# Altium integrated library 03132024_PIFProject_Mai_v1.IntLib: 12 symbols
Pins are listed as number, name and electrical type; pins without a type are passive.

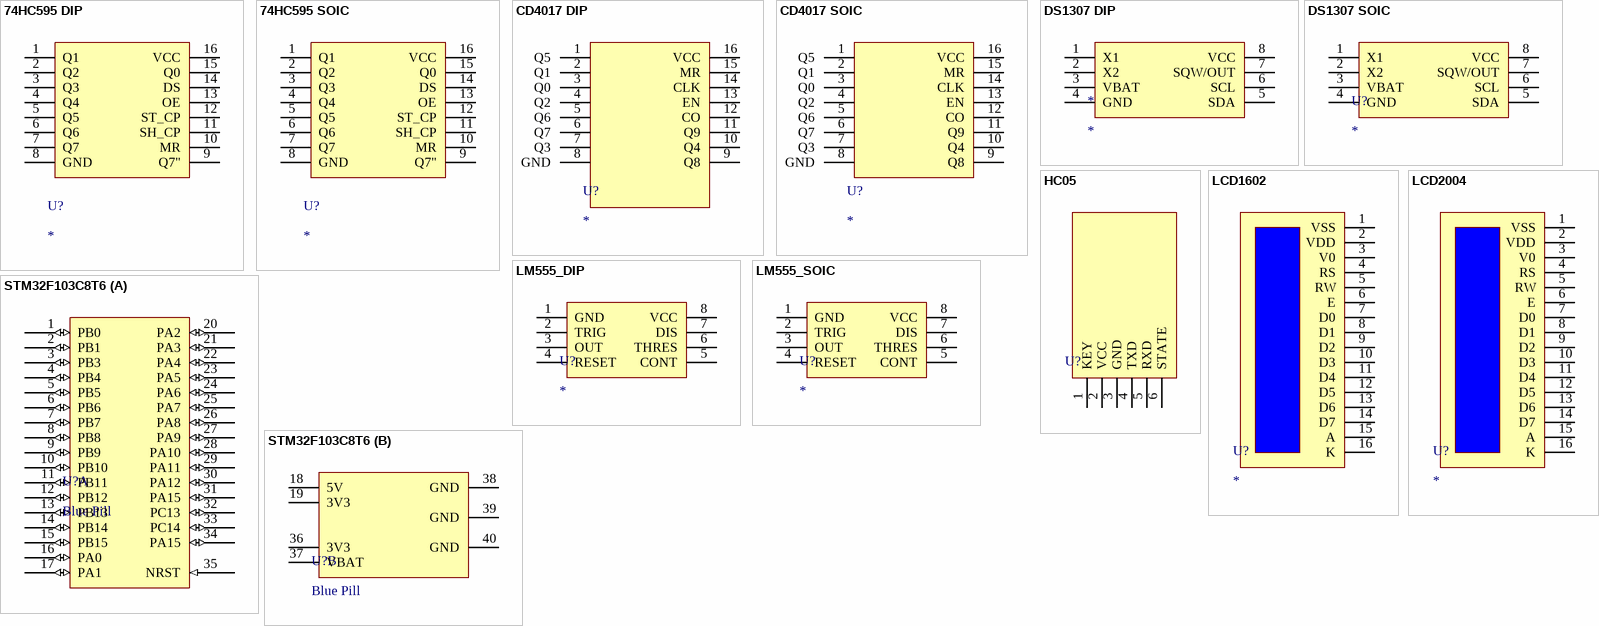
[diagram p0: symbols 74HC595 DIP to STM32F103C8T6]

## 74HC595 DIP
designator U?
footprint 74HC595 DIP
pins: 1 Q1, 2 Q2, 3 Q3, 4 Q4, 5 Q5, 6 Q6, 7 Q7, 8 GND, 9 Q7'', 10 MR, 11 SH_CP, 12 ST_CP, 13 OE, 14 DS, 15 Q0, 16 VCC

## 74HC595 SOIC
designator U?
footprint 74HC595 SOIC
pins: 1 Q1, 2 Q2, 3 Q3, 4 Q4, 5 Q5, 6 Q6, 7 Q7, 8 GND, 9 Q7'', 10 MR, 11 SH_CP, 12 ST_CP, 13 OE, 14 DS, 15 Q0, 16 VCC

## CD4017 DIP
designator U?
footprint CD4017 DIP
pins: 1 Q5, 2 Q1, 3 Q0, 4 Q2, 5 Q6, 6 Q7, 7 Q3, 8 GND, 9 Q8, 10 Q4, 11 Q9, 12 CO, 13 EN, 14 CLK, 15 MR, 16 VCC

## CD4017 SOIC
designator U?
footprint CD4017_SOIC (SOIC, 16-Leads, Body 9.90x3.90mm, Pitch 1.27mm, IPC Medium Density)
pins: 1 Q5, 2 Q1, 3 Q0, 4 Q2, 5 Q6, 6 Q7, 7 Q3, 8 GND, 9 Q8, 10 Q4, 11 Q9, 12 CO, 13 EN, 14 CLK, 15 MR, 16 VCC

## DS1307 DIP
designator *
footprint DS1307_DIP
pins: 1 X1, 2 X2, 3 VBAT, 4 GND, 5 SDA, 6 SCL, 7 SQW/OUT, 8 VCC

## DS1307 SOIC
designator U?
footprint DS1307_SOIC (SOIC, 8-Leads, Body 4.88x3.91mm, Pitch 1.27mm, IPC Medium Density)
pins: 1 X1, 2 X2, 3 VBAT, 4 GND, 5 SDA, 6 SCL, 7 SQW/OUT, 8 VCC

## HC05
designator U?
footprint HC05
pins: 1 KEY, 2 VCC, 3 GND, 4 TXD, 5 RXD, 6 STATE

## LCD1602
designator U?
footprint LCD1602_16PIN
pins: 1 VSS, 2 VDD, 3 V0, 4 RS, 5 RW, 6 E, 7 D0, 8 D1, 9 D2, 10 D3, 11 D4, 12 D5, 13 D6, 14 D7, 15 A, 16 K

## LCD2004
designator U?
footprint LCD1602_16PIN
pins: 1 VSS, 2 VDD, 3 V0, 4 RS, 5 RW, 6 E, 7 D0, 8 D1, 9 D2, 10 D3, 11 D4, 12 D5, 13 D6, 14 D7, 15 A, 16 K

## LM555_DIP
designator U?
footprint LM555_DIP
pins: 1 GND, 2 TRIG, 3 OUT, 4 RESET, 5 CONT, 6 THRES, 7 DIS, 8 VCC

## LM555_SOIC
designator U?
footprint LM555_SOIC (SOIC, 8-Leads, Body 4.91x3.90mm, Pitch 1.27mm, IPC Medium Density)
pins: 1 GND, 2 TRIG, 3 OUT, 4 RESET, 5 CONT, 6 THRES, 7 DIS, 8 VCC

## STM32F103C8T6
designator U?, comment Blue Pill
STM32F103C8T6, mbed-Enabled Development Bluepill STM32F1 ARM® Cortex®-M3 MCU 32-Bit Embedded Evaluation Board
footprint STM32F103C8T6 BLUEPILL
part A pins: 1 PB0 (io), 2 PB1 (io), 3 PB3 (io), 4 PB4 (io), 5 PB5 (io), 6 PB6 (io), 7 PB7 (io), 8 PB8 (io), 9 PB9 (io), 10 PB10 (io), 11 PB11 (io), 12 PB12 (io), 13 PB13 (io), 14 PB14 (io), 15 PB15 (io), 16 PA0 (io), 17 PA1 (io), 20 PA2 (io), 21 PA3 (io), 22 PA4 (io), 23 PA5 (io), 24 PA6 (io), 25 PA7 (io), 26 PA8 (io), 27 PA9 (io), 28 PA10 (io), 29 PA11 (io), 30 PA12 (io), 31 PA15 (io), 32 PC13 (io), 33 PC14 (io), 34 PA15 (io), 35 NRST (in)
part B pins: 18 5V, 19 3V3, 36 3V3, 37 VBAT, 38 GND, 39 GND, 40 GND